# Altium schematic symbol library R_1K02.SchLib: 1 symbol
Pins are listed as number, name and electrical type; pins without a type are passive.

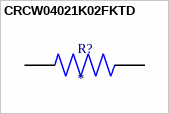
[diagram p0: symbol CRCW04021K02FKTD]

## CRCW04021K02FKTD
designator R?
Res Thick Film 0402 1.02K Ohm 1% 1/16W Â±100ppm/Â°C Molded SMD SMD Paper T/R; MP: CRCW04021K02FKTD; Package: None; Price: None; Value: *; Availability: Unavailable
footprint RESC1005X40N
pins: 1, 2